# Altium schematic symbol library 4.Diodes.SchLib: 85 symbols
Pins are listed as number, name and electrical type; pins without a type are passive.

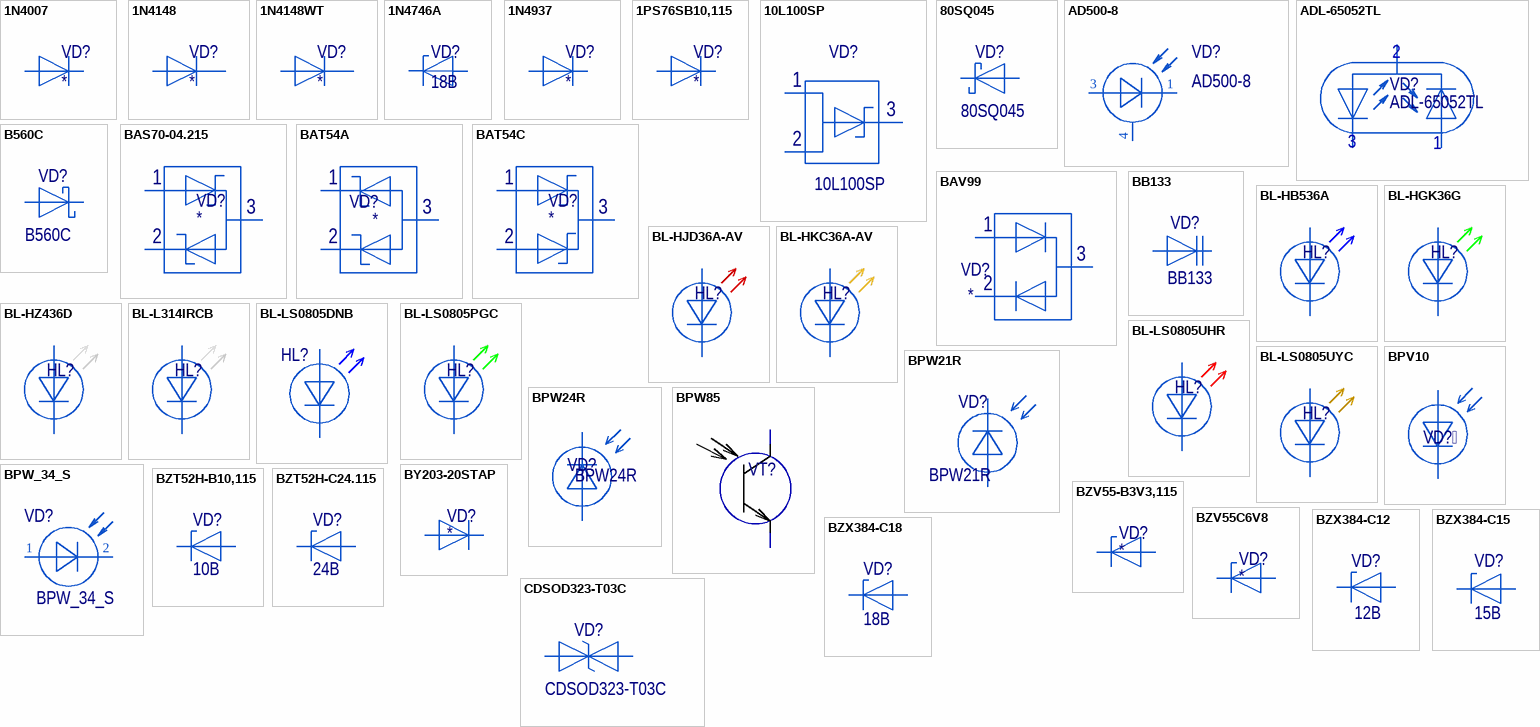
[diagram p0: symbols 1N4007 to CDSOD323-T03C]

## 1N4007
designator VD?
Диод
footprint DO-41
pins: 1, 2

## 1N4148
designator VD?
Диод
footprint DO35
pins: 1, 2

## 1N4148WT
designator VD?
Диод
footprint SOD-523F (SODFL, 2-Leads, Body 0.80x1.60mm, IPC Medium Density)
footprint SOD-123F (SODFL, 2-Leads, Body 1.60x3.50mm, IPC Medium Density)
pins: 1, 2

## 1N4746A
designator VD?, comment 18В
Стабилитрон 18В, 5%, 1Вт, [DO-41]
footprint DO-41
pins: 1, 2

## 1N4937
designator VD?
Диод
footprint DO-41
pins: 1, 2

## 1PS76SB10,115
designator VD?
Диод
footprint SOD-323 (Footprint not found)
pins: 1, 2

## 10L100SP
designator VD?
Диод Шоттки 10А 100В [TO-277]
footprint TO-277
pins: 1 A1, 2 C2, 3 C1A2

## 80SQ045
designator VD?
Диод Шоттки 8А 45В
footprint DO-201AD
pins: 1, 2

## AD500-8
designator VD?
footprint AD500-8
pins: 1, 3, 4

## ADL-65052TL
designator VD?
HelpURL: https://www.laserlands.net/datasheet/11061286.pdf
footprint Laser TO-18
pins: 1, 2, 3

## B560C
designator VD?
Диод Шоттки 60В 5А [SMC / DO-214AB]
footprint DO-214AB
pins: 1, 2

## BAS70-04.215
designator VD?
2 диода Шоттки, 0.07А, 70В
footprint SOT23 (SOT23, 3-Leads, Body 2,90x2,45mm, Pitch 0,95mm, IPC Medium Density)
pins: 1 A1, 2 C2, 3 C1A2

## BAT54A
designator VD?
Диод Шоттки, 2 диода, общий анод, 30В, 0.2А [SOT-23]
footprint SOT23 (SOT23, 3-Leads, Body 2,90x2,45mm, Pitch 0,95mm, IPC Medium Density)
pins: 1 A1, 2 C2, 3 C1A2

## BAT54C
designator VD?
Диод Шоттки, 2 диода, общий катод, 30В, 0.2А [SOT-23]
footprint SOT23 (SOT23, 3-Leads, Body 2,90x2,45mm, Pitch 0,95mm, IPC Medium Density)
pins: 1 A1, 2 C2, 3 C1A2

## BAV99
designator VD?
HelpURL: https://www.vishay.com/docs/85718/bav99.pdf
footprint SOT23 (SOT23, 3-Leads, Body 2,90x2,45mm, Pitch 0,95mm, IPC Medium Density)
pins: 1 A1, 2 C2, 3 C1A2

## BB133
designator VD?
VHF variable capacitance diode
footprint SOD323 (SOD-323, 1-anode)
pins: 1, 2

## BL-HB536A
designator HL?  (value not drawn)
SMD LED 0603 TOP синий
footprint LED_0603_BLUE
pins: 1, 2

## BL-HGK36G
designator HL?  (value not drawn)
SMD LED 0603 TOP зеленый
footprint LED_0603_GREEN
pins: 1, 2

## BL-HJD36A-AV
designator HL?  (value not drawn)
SMD LED 0603 TOP красный
footprint LED_0603_RED
pins: 1, 2

## BL-HKC36A-AV
designator HL?  (value not drawn)
SMD LED 0603 TOP желтый
footprint LED_0603_GREEN
pins: 1, 2

## BL-HZ436D
designator HL?  (value not drawn)
SMD LED 0603 TOP белый
footprint LED_0603_WHITE
pins: 1, 2

## BL-L314IRCB
designator HL?  (value not drawn)
ИК светодиод 40" d=3мм 850нм
footprint LED_3mm
pins: 1, 2

## BL-LS0805DNB
designator HL?  (value not drawn)
footprint LED_0805_BLUE
pins: 1, 2

## BL-LS0805PGC
designator HL?  (value not drawn)
footprint LED_0805_GREEN
pins: 1, 2

## BL-LS0805UHR
designator HL?  (value not drawn)
footprint LED_0805_RED
pins: 1, 2

## BL-LS0805UYC
designator HL?  (value not drawn)
footprint LED_0805_YELLOW
pins: 1, 2

## BPV10
designator VD?  (value not drawn)
Silicon PIN Photodiode
footprint LED_5mm
pins: 1, 2

## BPW21R
designator VD?
footprint bpw21
pins: A, C

## BPW24R
designator VD?
footprint bpw24
pins: A, C

## BPW85
designator VT?  (value not drawn)
Transistor
footprint LED_3mm_Transistor
pins: 1 E, 2 C

## BPW_34_S
designator VD?
PIN фотодиод 430...1010нм SMD 6.4 x 3.9 x 1.2
footprint VBPW34
pins: 1, 2

## BY203-20STAP
designator VD?
Диод 3A 2000V [SOD 57]
footprint SOD57
pins: 1, 2

## BZT52H-B10,115
designator VD?, comment 10В
Стабилитрон, 10В, 830мВт
footprint SOD-123F (SODFL, 2-Leads, Body 1.60x3.50mm, IPC Medium Density)
pins: 1, 2

## BZT52H-C24.115
designator VD?, comment 24В
Стабилитрон, 24В, 375мВт
footprint SOD-123F (SODFL, 2-Leads, Body 1.60x3.50mm, IPC Medium Density)
pins: 1, 2

## BZV55-B3V3,115
designator VD?
Стабилитрон 3.3В 0.5Вт [SOD-80]
footprint SOD-80 (MELF Diode, 2-Leads, Body 3,50x1,65mm, IPC Medium Density)
pins: 1, 2

## BZV55C6V8
designator VD?
Стабилитрон 6.8В, 5%, 0.5Вт
footprint SOD-80 (MELF Diode, 2-Leads, Body 3,50x1,65mm, IPC Medium Density)
pins: 1, 2

## BZX384-C12
designator VD?, comment 12В
Стабилитрон 12В 0.3Вт
footprint sod323 (SOD-323, cathode-line)
pins: A, K

## BZX384-C15
designator VD?, comment 15В
Стабилитрон 15В 0.3Вт
footprint sod323 (SOD-323, cathode-line)
pins: A, K

## BZX384-C18
designator VD?, comment 18В
Стабилитрон 18В 0.3Вт
footprint sod323 (SOD-323, cathode-line)
pins: A, K

## CDSOD323-T03C
designator VD?
Диод защитный от перенапряжения 3.3В...7В, двунаправленный TVS Diode (Bi-directional); Manufacturer_Name: Bourns; Datasheet Link: http://www.bourns.com/docs/Product-Datasheets/CDSOD323-TxxC.pdf; Manufacturer_Part_Number: CDSOD323-T03C; Mouser Part Number: 652-CDSOD323-T03C; Mouser Price/Stock: https://www.mouser.co.uk/ProductDetail/Bourns/CDSOD323-T03C?qs=N%252BiqXe0%252BQtupldVBVXb7mA%3D%3D; Arrow Part Number: CDSOD323-T03C; Arrow Price/Stock: https://www.arrow.com/en/products/cdsod323-t03c/bourns?region=nac
footprint SOD323 (SOD-323, 1-anode)
pins: 1, 2

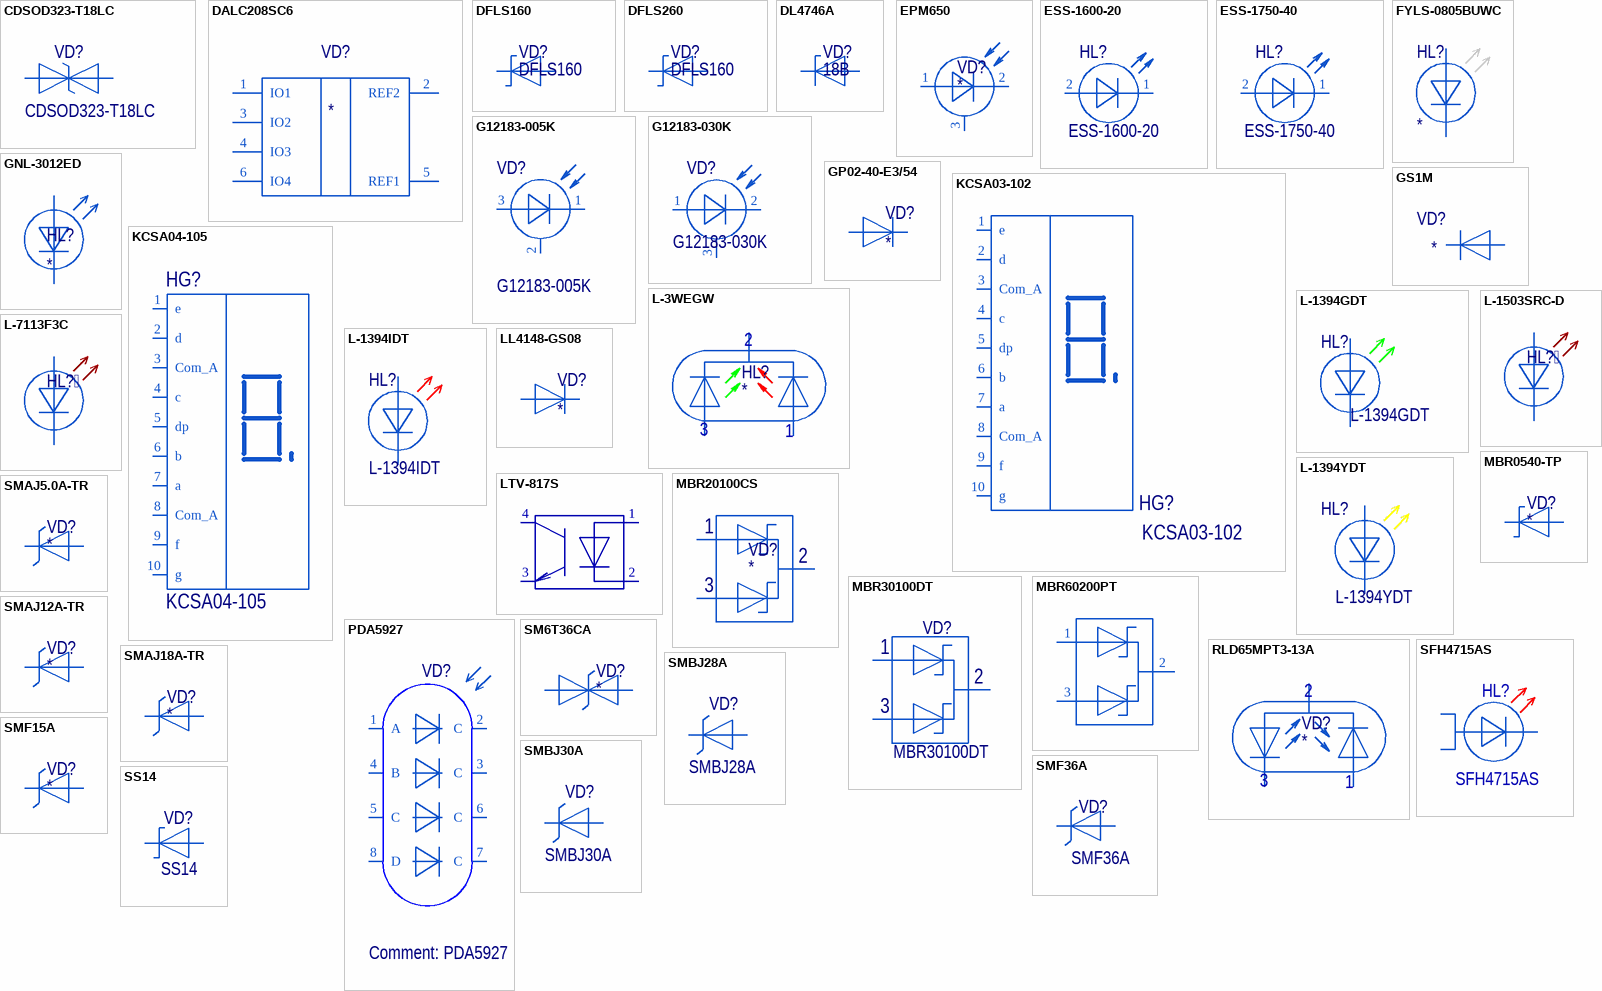
[diagram p1: symbols CDSOD323-T18LC to SS14]

## CDSOD323-T18LC
designator VD?
диод-ограничитель напряжения) 18В порог 29В
footprint SOD323 (SOD-323, 1-anode)
pins: 1, 2

## DALC208SC6
designator VD?
Диодная защита для 4-х линий данных, [SOT-23-6]
footprint SOT-23-6 (SOT23, 6-Leads, Body 1,60x1,60mm, Pitch 0,50mm, IPC Medium Density)
pins: 1 IO1, 2 REF2, 3 IO2, 4 IO3, 5 REF1, 6 IO4

## DFLS160
designator VD?
1.0A SURFACE MOUNT SCHOTTKY BARRIER RECTIFIER
footprint PowerDI123 (SODFL, 2-Leads, Body 1.78x3.70mm, IPC Medium Density)
pins: 1, 2

## DFLS260
designator VD?, comment DFLS160
2.0A SURFACE MOUNT SCHOTTKY BARRIER RECTIFIER
footprint PowerDI123 (SODFL, 2-Leads, Body 1.78x3.70mm, IPC Medium Density)
pins: 1, 2

## DL4746A
designator VD?, comment 18B
footprint SOD-80 (MELF Diode, 2-Leads, Body 3,50x1,65mm, IPC Medium Density)
pins: 1, 2

## EPM650
designator VD?
JDSU Pigtail Photodiode
footprint EPM650
pins: 1, 2, 3

## ESS-1600-20
designator HL?
ESS-1600-20 Лазер Эльфолюм
footprint SOT-148 (BGM-laser)
pins: 1, 2

## ESS-1750-40
designator HL?
ESS-1750-40 Лазер Эльфолюм
footprint SOT-148 (BGM-laser)
pins: 1, 2

## FYLS-0805BUWC
designator HL?
footprint LED_0805
pins: 1, 2

## G12183-005K
designator VD?
Фотодиод
footprint g12183-005k
pins: 1, 2, 3

## G12183-030K
designator VD?
Фотодиод
footprint G12183-030K (Фотодиод)
pins: 1, 2, 3

## GNL-3012ED
designator HL?
footprint GNL-3012ED
pins: 1, 2

## GP02-40-E3/54
designator VD?
Диод 4кВ
footprint DO-41
pins: 1, 2

## GS1M
designator VD?
footprint DO-214AC
pins: 1, 2

## KCSA03-102
designator HG?
footprint ACSX02-41
pins: 1 e, 2 d, 3 Com_A, 4 c, 5 dp, 6 b, 7 a, 8 Com_A, 9 f, 10 g

## KCSA04-105
designator HG?
Value: KCSA04-105
footprint KCSA04
pins: 1 e, 2 d, 3 Com_A, 4 c, 5 dp, 6 b, 7 a, 8 Com_A, 9 f, 10 g

## L-3WEGW
designator HL?
footprint LED_3_PIN
pins: 1, 2, 3

## L-1394GDT
designator HL?
Светодиод Flat Top зеленый 120° d=2мм 5мКд 568нМ
footprint L-1394GDT
pins: A, K

## L-1394IDT
designator HL?
Светодиод Flat Top красный 120° d=2мм 8мКд 625нМ
footprint L-1394IDT
pins: A, K

## L-1394YDT
designator HL?
Светодиод Flat Top желтый 120° d=2мм 5мКд 588нМ
footprint L-1394YDT
pins: A, K

## L-1503SRC-D
designator HL?  (value not drawn)
660nm 5mm LED
footprint LED_5mm
pins: 1, 2

## L-7113F3C
designator HL?  (value not drawn)
940nm 5mm LED
footprint LED_5mm
pins: 1, 2

## LL4148-GS08
designator VD?
Диод
footprint SOD-80 (MELF Diode, 2-Leads, Body 3,50x1,65mm, IPC Medium Density)
pins: 1, 2

## LTV-817S
designator VD?, comment LTV-817S-TA1-C  (value not drawn)
Оптопара транзисторная
footprint SOP254P1016X460-4N
pins: 1, 2, 3, 4

## MBR0540-TP
designator VD?
Диод Шоттки, 40В, 0.5А
footprint SOD-123F (SODFL, 2-Leads, Body 1.60x3.50mm, IPC Medium Density)
pins: 1, 2

## MBR20100CS
designator VD?
footprint TO-252 (D-PAK, 3-Pads, Body 6,15x6,65mm (max), IPC Medium Density)
pins: 1 A1, 2, 3 C2

## MBR30100DT
designator VD?
30A 850mV@15A TO-252 Schottky Diodes
footprint TO-252 (D-PAK, 3-Pads, Body 6,15x6,65mm (max), IPC Medium Density)
pins: 1 A1, 2, 3 C2

## MBR60200PT
designator VD?  (value not drawn)
footprint TO-247
pins: 1 A1, 2 C1A2, 3 C2

## PDA5927
designator VD?
footprint PDA5927
pins: 1 A, 2 C, 3 C, 4 B, 5 C, 6 C, 7 C, 8 D

## RLD65MPT3-13A
designator VD?
HelpURL: https://4donline.ihs.com/images/VipMasterIC/IC/ROHM/ROHMS13203/ROHMS13203-1.pdf
footprint Laser TO-18
pins: 1, 2, 3

## SFH4715AS
designator HL?
Инфракрасный светодиод 850нм 780мВт smd 3.85x3.85мм; Manufacturer_Name: ams OSRAM; Height: 2mm; Manufacturer_Part_Number: SFH4715AS
footprint SFH4715AS (3.85x3.85 mm)
pins: 1 K, 2 A_1, 3 A_2

## SM6T36CA
designator VD?
Защитный диод, двунаправленный, 36В, 600Вт
footprint DO-214AA
pins: 1, 2

## SMAJ5.0A-TR
designator VD?
Защитный диод, однонаправленный
footprint DO-214AC
pins: 1, 2

## SMAJ12A-TR
designator VD?
Защитный диод 400Вт 12В
footprint DO-214AC
pins: 1, 2

## SMAJ18A-TR
designator VD?
Защитный диод 400Вт 18В
footprint DO-214AC
pins: 1, 2

## SMBJ28A
designator VD?
Защитный диод, однонаправленный
footprint DO-214AA
pins: 1, 2

## SMBJ30A
designator VD?
Защитный диод, однонаправленный
footprint DO-214AA
pins: 1, 2

## SMF15A
designator VD?
Диод защитный 15В 200Вт
footprint SOD-123F (SODFL, 2-Leads, Body 1.60x3.50mm, IPC Medium Density)
pins: 1, 2

## SMF36A
designator VD?
Диод защитный 36В 200Вт
footprint SOD-123F (SODFL, 2-Leads, Body 1.60x3.50mm, IPC Medium Density)
pins: 1, 2

## SS14
designator VD?
footprint DO-214AC
pins: 1, 2

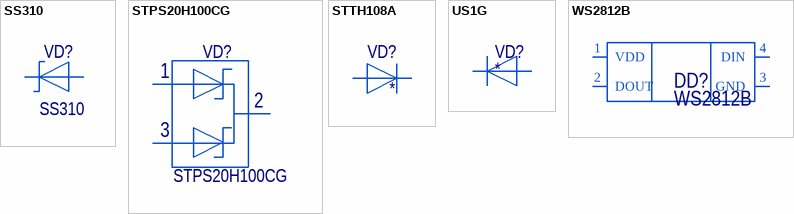
[diagram p2: symbols SS310 to WS2812B]

## SS310
designator VD?
footprint DO-214AC
pins: 1, 2

## STPS20H100CG
designator VD?
30A 850mV@15A TO-252 Schottky Diodes
footprint D2PAK
pins: 1 A1, 2, 3 C2

## STTH108A
designator VD?
Диод ULTRA FAST 1А 800В
footprint DO-214AC
pins: 1, 2

## US1G
designator VD?
footprint DO-214AC
pins: 1, 2

## WS2812B
designator DD?
footprint WS2812B
pins: 1 VDD, 2 DOUT, 3 GND, 4 DIN